# EAGLE library part SD-CARD-BOARD (library kaibader)
Secure Digital (SD) Card Board
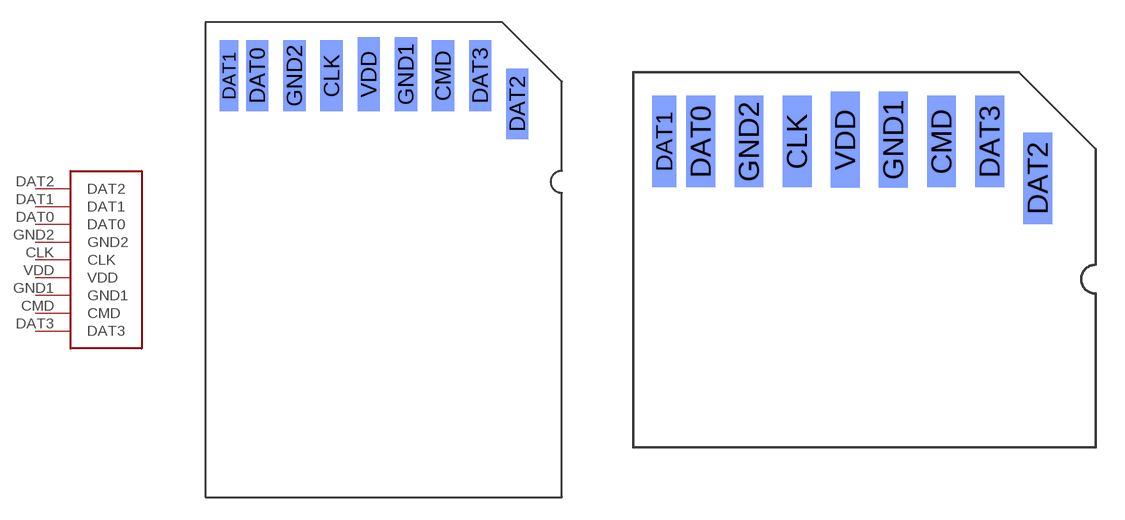
[diagram p8: symbol with the pads of SD-CARD-BOARD; footprints SD-CARD-BOARD, SD-CARD-BOARD-THIN]

Designator prefix SD

## SD-CARD-BOARD-REGULAR  [SD-CARD-BOARD]
CLK  CLK
CMD  CMD
DAT0  DAT0
DAT1  DAT1
DAT2  DAT2
DAT3  DAT3
GND1  GND1  pwr
GND2  GND2  pwr
VDD  VDD  pwr

## SD-CARD-BOARD-THIN  [SD-CARD-BOARD-THIN]
Pads as for SD-CARD-BOARD

## Footprint SD-CARD-BOARD (pad centres in mm)
Secure Digital (SD) Card Board
smd 1.5 x 4.75 bottom: CLK 8.5,28.4; CMD 16,28.4; DAT0 3.5,28.4; DAT2 21,26.5; DAT3 18.5,28.4; GND2 6,28.4
smd 1.25 x 4.75 bottom: DAT1 1.6,28.4
smd 1.5 x 5 bottom: GND1 13.5,28.5; VDD 11,28.5

## Footprint SD-CARD-BOARD-THIN (pad centres in mm)
Secure Digital (SD) Card Board - Short Form Factor
smd 1.5 x 4.75 bottom: CLK 8.5,15.9; CMD 16,15.9; DAT0 3.5,15.9; DAT2 21,14; DAT3 18.5,15.9; GND2 6,15.9
smd 1.25 x 4.75 bottom: DAT1 1.6,15.9
smd 1.5 x 5 bottom: GND1 13.5,16; VDD 11,16